# Altium schematic symbol library PJ-002AH-SMT-TR.SchLib: 1 symbol
Pins are listed as number, name and electrical type; pins without a type are passive.

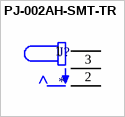
[diagram p0: symbol PJ-002AH-SMT-TR]

## PJ-002AH-SMT-TR
designator J?
2.0 x 6.5 mm, 5.0 A, Horizontal, Surface Mount (SMT), Dc Power Jack Connector; part number: PJ-002AH-SMT-TR; MF: Same Sky; SnapEDA_Link: https://www.snapeda.com/parts/PJ-002AH-SMT-TR/Same+Sky/view-part/?ref=snap; Package: None; Value: *; Check_prices: https://www.snapeda.com/parts/PJ-002AH-SMT-TR/Same+Sky/view-part/?ref=eda
footprint CUI_PJ-002AH-SMT-TR
pins: 1A 1, 1B 1, 2, 3